# Altium integrated library STM32H750XBH6.IntLib: 1 symbol
Pins are listed as number, name and electrical type; pins without a type are passive.

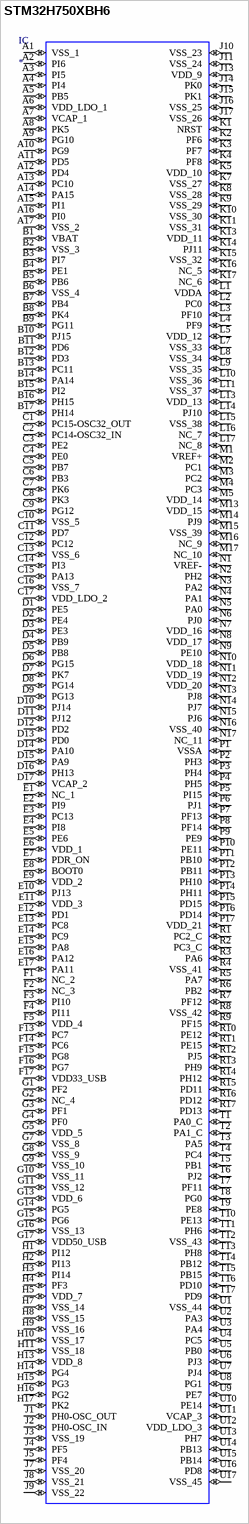
[diagram p0: symbol STM32H750XBH6]

## STM32H750XBH6
designator IC
ARMÂ® CortexÂ®-M7 STM32H7 Microcontroller IC 32-Bit 480MHz 128KB _128K x 8_ FLASH 240+25-TFBGA _14x14_; MF: STMicroelectronics; MP: STM32H750XBH6; Availability: Unavailable; Price: None; Package: TFBGA-265 STMicroelectronics; Value: *; SnapEDA_Link: https://www.snapeda.com/parts/STM32H750XBH6/STMicroelectronics/view-part/3217517/?ref=snap
footprint BGA265C80P17X17_1400X1400X110
pins: A1 VSS_1 (io), A2 PI6 (io), A3 PI5 (io), A4 PI4 (io), A5 PB5 (io), A6 VDD_LDO_1 (io), A7 VCAP_1 (io), A8 PK5 (io), A9 PG10 (io), A10 PG9 (io), A11 PD5 (io), A12 PD4 (io), A13 PC10 (io), A14 PA15 (io), A15 PI1 (io), A16 PI0 (io), A17 VSS_2 (io), B1 VBAT (io), B2 VSS_3 (io), B3 PI7 (io), B4 PE1 (io), B5 PB6 (io), B6 VSS_4 (io), B7 PB4 (io), B8 PK4 (io), B9 PG11 (io), B10 PJ15 (io), B11 PD6 (io), B12 PD3 (io), B13 PC11 (io), B14 PA14 (io), B15 PI2 (io), B16 PH15 (io), B17 PH14 (io), C1 PC15-OSC32_OUT (io), C2 PC14-OSC32_IN (io), C3 PE2 (io), C4 PE0 (io), C5 PB7 (io), C6 PB3 (io), C7 PK6 (io), C8 PK3 (io), C9 PG12 (io), C10 VSS_5 (io), C11 PD7 (io), C12 PC12 (io), C13 VSS_6 (io), C14 PI3 (io), C15 PA13 (io), C16 VSS_7 (io), C17 VDD_LDO_2 (io), D1 PE5 (io), D2 PE4 (io), D3 PE3 (io), D4 PB9 (io), D5 PB8 (io), D6 PG15 (io), D7 PK7 (io), D8 PG14 (io), D9 PG13 (io), D10 PJ14 (io), D11 PJ12 (io), D12 PD2 (io), D13 PD0 (io), D14 PA10 (io), D15 PA9 (io), D16 PH13 (io), D17 VCAP_2 (io), E1 NC_1 (io), E2 PI9 (io), E3 PC13 (io), E4 PI8 (io), E5 PE6 (io), E6 VDD_1 (io), E7 PDR_ON (io), E8 BOOT0 (io), E9 VDD_2 (io), E10 PJ13 (io), E11 VDD_3 (io), E12 PD1 (io), E13 PC8 (io), E14 PC9 (io), E15 PA8 (io), E16 PA12 (io), E17 PA11 (io), F1 NC_2 (io), F2 NC_3 (io), F3 PI10 (io), F4 PI11 (io), F5 VDD_4 (io), F13 PC7 (io), F14 PC6 (io), F15 PG8 (io), F16 PG7 (io), F17 VDD33_USB (io), G1 PF2 (io), G2 NC_4 (io), G3 PF1 (io), G4 PF0 (io), G5 VDD_5 (io), G7 VSS_8 (io), G8 VSS_9 (io), G9 VSS_10 (io), G10 VSS_11 (io), G11 VSS_12 (io), G13 VDD_6 (io), G14 PG5 (io), G15 PG6 (io), G16 VSS_13 (io), G17 VDD50_USB (io), H1 PI12 (io), H2 PI13 (io), H3 PI14 (io), H4 PF3 (io), H5 VDD_7 (io), H7 VSS_14 (io), H8 VSS_15 (io), H9 VSS_16 (io), H10 VSS_17 (io), H11 VSS_18 (io), H13 VDD_8 (io), H14 PG4 (io), H15 PG3 (io), H16 PG2 (io), H17 PK2 (io), J1 PH0-OSC_OUT (io), J2 PH0-OSC_IN (io), J3 VSS_19 (io), J4 PF5 (io), J5 PF4 (io), J7 VSS_20 (io), J8 VSS_21 (io), J9 VSS_22 (io), J10 VSS_23 (io), J11 VSS_24 (io), J13 VDD_9 (io), J14 PK0 (io), J15 PK1 (io), J16 VSS_25 (io), J17 VSS_26 (io), K1 NRST (io), K2 PF6 (io), K3 PF7 (io), K4 PF8 (io), K5 VDD_10 (io), K7 VSS_27 (io), K8 VSS_28 (io), K9 VSS_29 (io), K10 VSS_30 (io), K11 VSS_31 (io), K13 VDD_11 (io), K14 PJ11 (io), K15 VSS_32 (io), K16 NC_5 (io), K17 NC_6 (io), L1 VDDA (io), L2 PC0 (io), L3 PF10 (io), L4 PF9 (io), L5 VDD_12 (io), L7 VSS_33 (io), L8 VSS_34 (io), L9 VSS_35 (io), L10 VSS_36 (io), L11 VSS_37 (io), L13 VDD_13 (io), L14 PJ10 (io), L15 VSS_38 (io), L16 NC_7 (io), L17 NC_8 (io), M1 VREF+ (io), M2 PC1 (io), M3 PC2 (io), M4 PC3 (io), M5 VDD_14 (io), M13 VDD_15 (io), M14 PJ9 (io), M15 VSS_39 (io), M16 NC_9 (io), M17 NC_10 (io), N1 VREF- (io), N2 PH2 (io), N3 PA2 (io), N4 PA1 (io), N5 PA0 (io), N6 PJ0 (io), N7 VDD_16 (io), N8 VDD_17 (io), N9 PE10 (io), N10 VDD_18 (io), N11 VDD_19 (io), N12 VDD_20 (io), N13 PJ8 (io), N14 PJ7 (io), N15 PJ6 (io), N16 VSS_40 (io), N17 NC_11 (io), P1 VSSA (io), P2 PH3 (io), P3 PH4 (io), P4 PH5 (io), P5 PI15 (io), P6 PJ1 (io), P7 PF13 (io), P8 PF14 (io), P9 PE9 (io), P10 PE11 (io), P11 PB10 (io), P12 PB11 (io), P13 PH10 (io), P14 PH11 (io), P15 PD15 (io), P16 PD14 (io), P17 VDD_21 (io), R1 PC2_C (io), R2 PC3_C (io), R3 PA6 (io), R4 VSS_41 (io), R5 PA7 (io), R6 PB2 (io), R7 PF12 (io), R8 VSS_42 (io), R9 PF15 (io), R10 PE12 (io), R11 PE15 (io), R12 PJ5 (io), R13 PH9 (io), R14 PH12 (io), R15 PD11 (io), R16 PD12 (io), R17 PD13 (io), T1 PA0_C (io), T2 PA1_C (io), T3 PA5 (io), T4 PC4 (io), T5 PB1 (io), T6 PJ2 (io), T7 PF11 (io), T8 PG0 (io), T9 PE8 (io), T10 PE13 (io), T11 PH6 (io), T12 VSS_43 (io), T13 PH8 (io), T14 PB12 (io), T15 PB15 (io), T16 PD10 (io), T17 PD9 (io), U1 VSS_44 (io), U2 PA3 (io), U3 PA4 (io), U4 PC5 (io), U5 PB0 (io), U6 PJ3 (io), U7 PJ4 (io), U8 PG1 (io), U9 PE7 (io), U10 PE14 (io), U11 VCAP_3 (io), U12 VDD_LDO_3 (io), U13 PH7 (io), U14 PB13 (io), U15 PB14 (io), U16 PD8 (io), U17 VSS_45 (io)